# EAGLE library part LT6201CS8#PBF (library other)
LT6201CS8#PBF, Dual Operational Amplifier 145MHz Rail-Rail 3 to 12V, 8-Pin SOIC Source: Datasheet <http://cds.linear.com/docs/en/datasheet/62001ff.pdf>
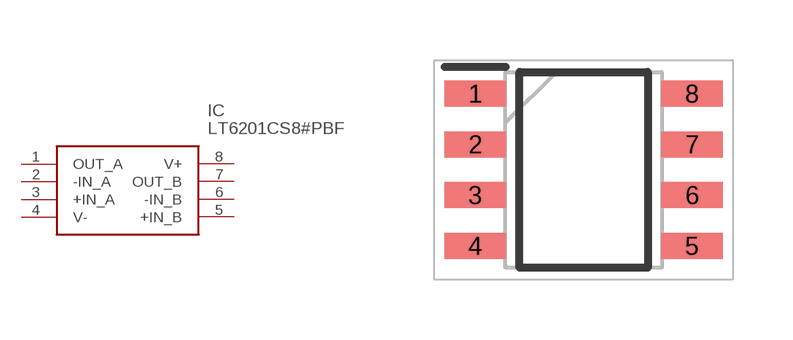
[diagram p11: symbol with the pads of SOIC127P599X175-8N; footprint SOIC127P599X175-8N]

Designator prefix IC

## LT6201CS8#PBF (ARROW_PART_NUMBER: LT6201CS8#PBF; ARROW_PRICE/STOCK: https://www.arrow.com/en/products/lt6201cs8pbf/linear-technology; DESCRIPTION: LT6201CS8#PBF, Dual Operational Amplifier 145MHz Rail-Rail 3 to 12V, 8-Pin SOIC; HEIGHT: 1.752mm; MANUFACTURER_NAME: Linear Technology; MANUFACTURER_PART_NUMBER: LT6201CS8#PBF; RS_PART_NUMBER: 5061072P; RS_PRICE/STOCK: http://uk.rs-online.com/web/p/products/5061072P)  [SOIC127P599X175-8N]
1  OUT_A  out
2  -IN_A  in
3  +IN_A  in
4  V-  pwr
5  +IN_B  in
6  -IN_B  in
7  OUT_B  out
8  V+  pwr

## Footprint SOIC127P599X175-8N (pad centres in mm)
S8(SOIC)
smd 1.526 x 0.65: 1 -2.712,1.905; 2 -2.712,0.635; 3 -2.712,-0.635; 4 -2.712,-1.905; 5 2.712,-1.905; 6 2.712,-0.635; 7 2.712,0.635; 8 2.712,1.905